# Altium integrated library TI Power Management Switching Regulator Charge Pump (Inductorless).IntLib: 239 symbols (part 4 of 14)
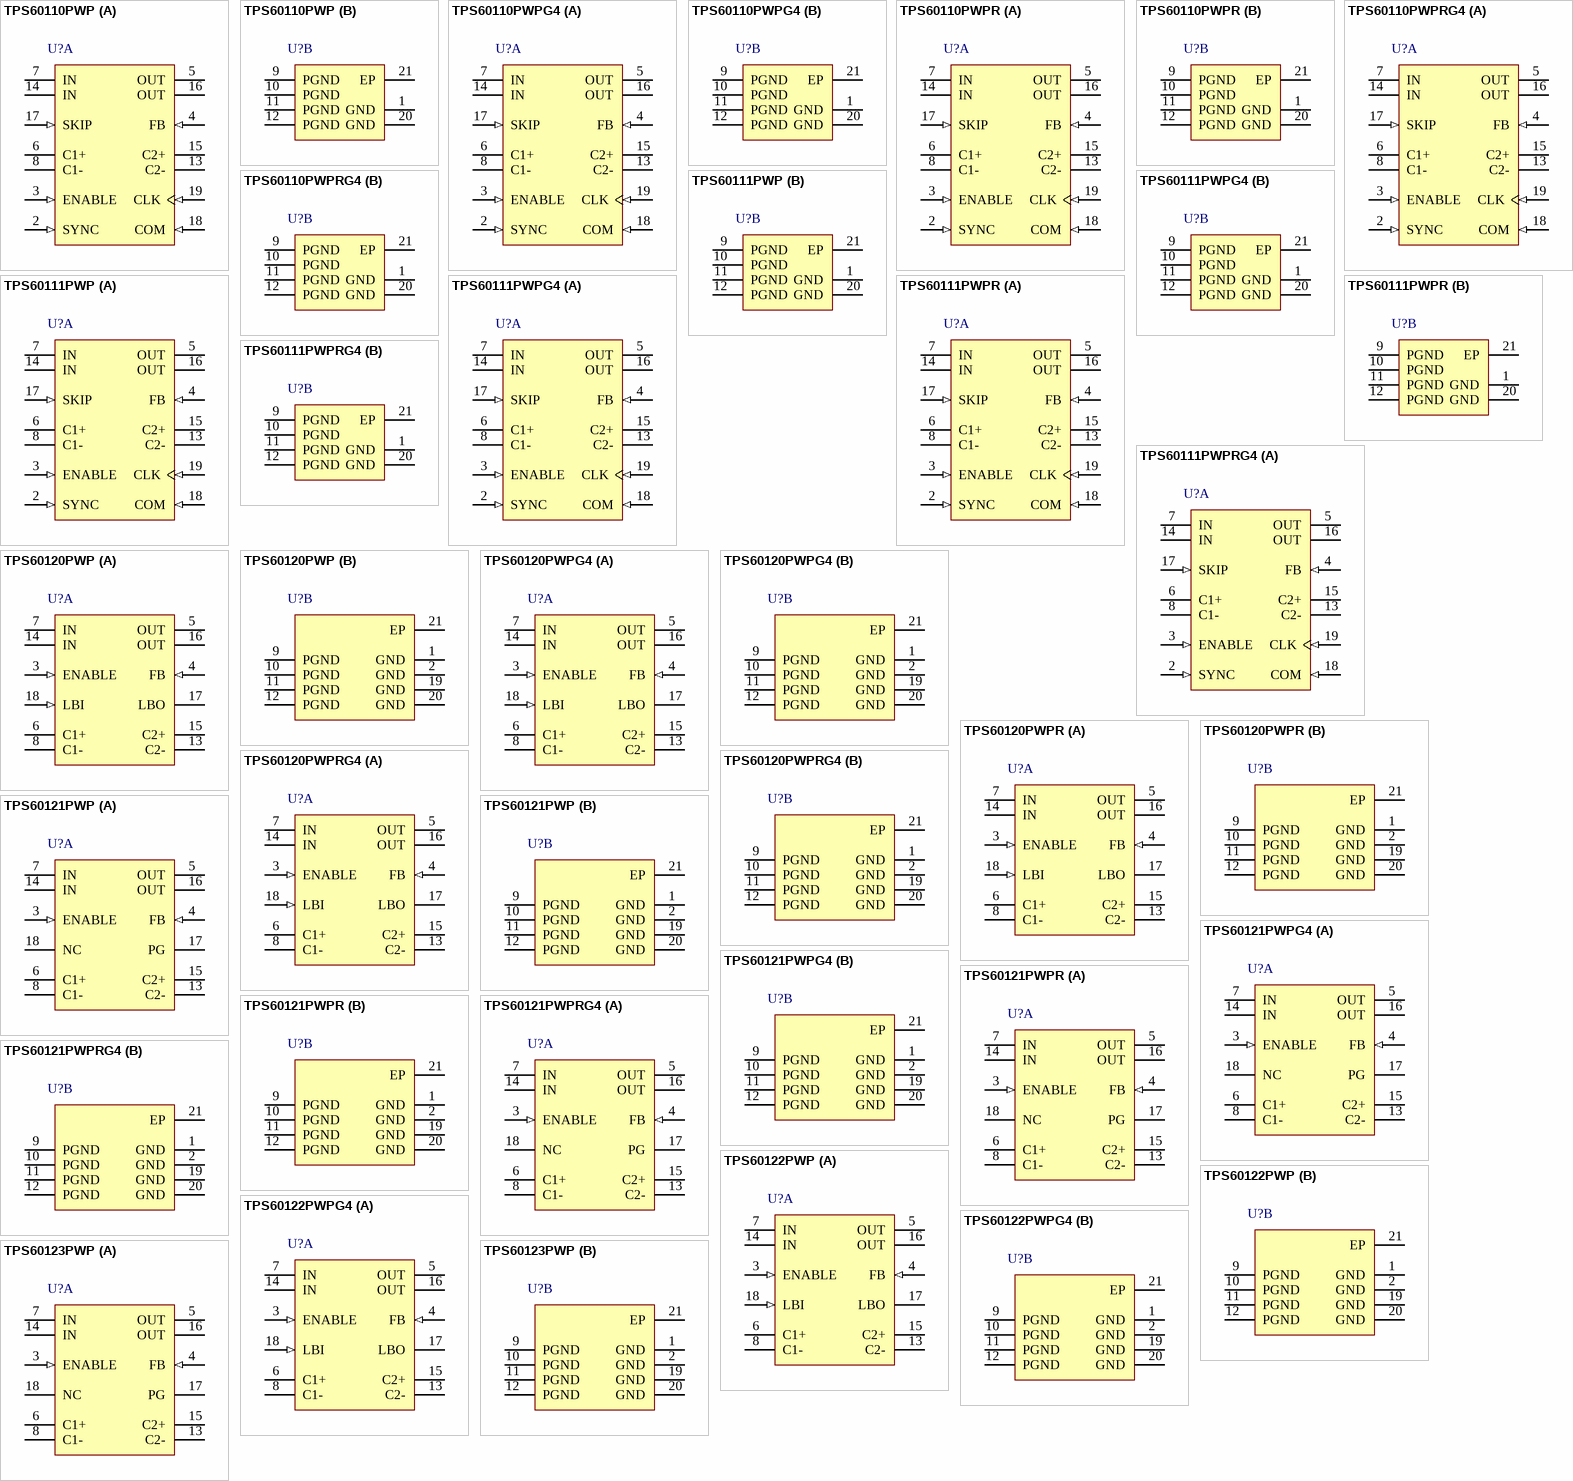
[diagram p10: symbols TPS60110PWP to TPS60123PWP]

## TPS60111PWPG4
designator U?
5 V, Boost Charge Pump, 150 mA, 2.7 to 5.4 V Input with Synchonrization Pin, -40 to 85 degC, 20-pin SOP (PWP20), Green (RoHS & no Sb/Br); Manufacturer: Texas Instruments; PartNumber: TPS60111PWPG4; Efficiency(Typ)(%): 70; Iout(Max)(A): 0.15; Iq(Typ)(mA): 0.06; Preset Vout(V): 5; Switching Frequency(Max)(kHz): 400; Synchronization Pin: TRUE; Vin(Max)(V): 5.4; Vin(Min)(V): 2.7; Vout(Max)(V): 5.2; Vout(Min)(V): 4.8; DatasheetVersion: SLVS216B; PackageVersion: 4073225-4/I; PackageReference: PWP20-2680X1950TP; PackageDescription: 20-Pin Plastic Small Outline, Body 6.5 x 4.4 mm, Pitch 0.65 mm; Supplier 1: Digi-Key; Supplier Part Number 1: TPS60111PWPG4-ND; Supplier 2: Newark; Supplier Part Number 2: 33K7627; Supplier 3: Mouser; Supplier Part Number 3: 595-TPS60111PWPG4; Eco-Plan: Green (RoHS & no Sb/Br); Topology: Boost; Mounting Technology: Surface Mount; Code_JEDEC: MO-153; ComponentLink1Description: Manufacturer URL; ComponentLink1URL: http://www.ti.com/; ComponentLink2Description: Datasheet; ComponentLink2URL: http://www.ti.com/general/docs/lit/getliterature.tsp?genericPartNumber=TPS60111&fileType=pdf; ComponentLink3Description: Package Specification; ComponentLink3URL: http://www.ti.com/litv/pdf/mhts001g
footprint TI-PWP20-2680X1950TP_N (SOP, 20-Leads, Body 6.4x4.4mm, Pitch 0.65mm, Thermal Pad 1.95x2.675mm, IPC Medium Density)
footprint TI-PWP20-2680X1950TP_L (SOP, 20-Leads, Body 6.4x4.4mm, Pitch 0.65mm, Thermal Pad 1.95x2.675mm, IPC High Density)
footprint TI-PWP20-2680X1950TP_M (SOP, 20-Leads, Body 6.4x4.4mm, Pitch 0.65mm, Thermal Pad 1.95x2.675mm, IPC Low Density)
part A pins: 2 SYNC (in) "Selection for external clock signal. Connect to GND to use the internally generated clock signal. Connect to IN for external synchronization. In this case, the clock signal needs to be fed through CLK.", 3 ENABLE (in) "ENABLE Input. The device turns off, the output disconnects from the input, and the supply current decreases to 0.05 uA when ENABLE is a logic low. ENABLE high may only be applied when VIN is inside the recommended operating (See Datasheet)", 4 FB (in) "FEEDBACK input. Connect FB to OUT as close to the load as possible to achieve best regulation. Resistive divider is on-chip to match internal reference voltage of 1.22 V.", 5 OUT (power) "Regulated 5-V power output. Connect both OUTs through a short trace and bypass OUT to GND with the output filter capacitor CO.", 6 C1+ "Positive terminal of the charge-pump capacitor C1F", 7 IN (power) "Supply Input. Connect to an input supply in the 2.7-V to 5.4-V range. Bypass IN to GND with a (CO/2) uF capacitor. Connect both INs through a short trace.", 8 C1- "Negative terminal of the charge-pump capacitor C1F", 13 C2- "Negative terminal of the charge-pump capacitor C2F", 14 IN (power) "Supply Input. Connect to an input supply in the 2.7-V to 5.4-V range. Bypass IN to GND with a (CO/2) uF capacitor. Connect both INs through a short trace.", 15 C2+ "Positive terminal of the charge-pump capacitor C2F", 16 OUT (power) "Regulated 5-V power output. Connect both OUTs through a short trace and bypass OUT to GND with the output filter capacitor CO.", 17 SKIP (in) "Mode selection. When SKIP is logic low the charge pump operates in constant-frequency mode. Thus output ripple and noise are minimized. When SKIP is connected to IN, the regulator operates in low-quiescent-current pulse-skip (See Datasheet)", 18 COM (in) "Mode selection. When COM is logic low the charge pump operates in push-pull mode to minimize output ripple. When COM is connected to IN the regulator operates in single-ended mode requiring only one flying capacitor.", 19 CLK (in) "Input for external clock signal. If the internal clock is used, connect this terminal to GND."
part B pins: 1 GND (power) "GROUND. Analog ground for internal reference and control circuitry. Connect to PGND through a short trace.", 9 PGND (power) "PGND power ground. Charge-pump current flows through this pin. Connect all PGNDs together.", 10 PGND (power) "PGND power ground. Charge-pump current flows through this pin. Connect all PGNDs together.", 11 PGND (power) "PGND power ground. Charge-pump current flows through this pin. Connect all PGNDs together.", 12 PGND (power) "PGND power ground. Charge-pump current flows through this pin. Connect all PGNDs together.", 20 GND (power) "GROUND. Analog ground for internal reference and control circuitry. Connect to PGND through a short trace.", 21 EP "Exposed thermal pad."

## TPS60111PWPR
designator U?
5 V, Boost Charge Pump, 150 mA, 2.7 to 5.4 V Input with Synchonrization Pin, -40 to 85 degC, 20-pin SOP (PWP20), Green (RoHS & no Sb/Br); Manufacturer: Texas Instruments; PartNumber: TPS60111PWPR; Efficiency(Typ)(%): 70; Iout(Max)(A): 0.15; Iq(Typ)(mA): 0.06; Preset Vout(V): 5; Switching Frequency(Max)(kHz): 400; Synchronization Pin: TRUE; Vin(Max)(V): 5.4; Vin(Min)(V): 2.7; Vout(Max)(V): 5.2; Vout(Min)(V): 4.8; DatasheetVersion: SLVS216B; PackageVersion: 4073225-4/I; PackageReference: PWP20-2680X1950TP; PackageDescription: 20-Pin Plastic Small Outline, Body 6.5 x 4.4 mm, Pitch 0.65 mm; Supplier 1: Digi-Key; Supplier Part Number 1: TPS60111PWPR-ND; Supplier 2: Newark; Supplier Part Number 2: 77C0558; Supplier 3: Mouser; Supplier Part Number 3: 595-TPS60111PWPR; Eco-Plan: Green (RoHS & no Sb/Br); Topology: Boost; Mounting Technology: Surface Mount; Code_JEDEC: MO-153; ComponentLink1Description: Manufacturer URL; ComponentLink1URL: http://www.ti.com/; ComponentLink2Description: Datasheet; ComponentLink2URL: http://www.ti.com/general/docs/lit/getliterature.tsp?genericPartNumber=TPS60111&fileType=pdf; ComponentLink3Description: Package Specification; ComponentLink3URL: http://www.ti.com/litv/pdf/mhts001g
footprint TI-PWP20-2680X1950TP_N (SOP, 20-Leads, Body 6.4x4.4mm, Pitch 0.65mm, Thermal Pad 1.95x2.675mm, IPC Medium Density)
footprint TI-PWP20-2680X1950TP_L (SOP, 20-Leads, Body 6.4x4.4mm, Pitch 0.65mm, Thermal Pad 1.95x2.675mm, IPC High Density)
footprint TI-PWP20-2680X1950TP_M (SOP, 20-Leads, Body 6.4x4.4mm, Pitch 0.65mm, Thermal Pad 1.95x2.675mm, IPC Low Density)
part A pins: 2 SYNC (in) "Selection for external clock signal. Connect to GND to use the internally generated clock signal. Connect to IN for external synchronization. In this case, the clock signal needs to be fed through CLK.", 3 ENABLE (in) "ENABLE Input. The device turns off, the output disconnects from the input, and the supply current decreases to 0.05 uA when ENABLE is a logic low. ENABLE high may only be applied when VIN is inside the recommended operating (See Datasheet)", 4 FB (in) "FEEDBACK input. Connect FB to OUT as close to the load as possible to achieve best regulation. Resistive divider is on-chip to match internal reference voltage of 1.22 V.", 5 OUT (power) "Regulated 5-V power output. Connect both OUTs through a short trace and bypass OUT to GND with the output filter capacitor CO.", 6 C1+ "Positive terminal of the charge-pump capacitor C1F", 7 IN (power) "Supply Input. Connect to an input supply in the 2.7-V to 5.4-V range. Bypass IN to GND with a (CO/2) uF capacitor. Connect both INs through a short trace.", 8 C1- "Negative terminal of the charge-pump capacitor C1F", 13 C2- "Negative terminal of the charge-pump capacitor C2F", 14 IN (power) "Supply Input. Connect to an input supply in the 2.7-V to 5.4-V range. Bypass IN to GND with a (CO/2) uF capacitor. Connect both INs through a short trace.", 15 C2+ "Positive terminal of the charge-pump capacitor C2F", 16 OUT (power) "Regulated 5-V power output. Connect both OUTs through a short trace and bypass OUT to GND with the output filter capacitor CO.", 17 SKIP (in) "Mode selection. When SKIP is logic low the charge pump operates in constant-frequency mode. Thus output ripple and noise are minimized. When SKIP is connected to IN, the regulator operates in low-quiescent-current pulse-skip (See Datasheet)", 18 COM (in) "Mode selection. When COM is logic low the charge pump operates in push-pull mode to minimize output ripple. When COM is connected to IN the regulator operates in single-ended mode requiring only one flying capacitor.", 19 CLK (in) "Input for external clock signal. If the internal clock is used, connect this terminal to GND."
part B pins: 1 GND (power) "GROUND. Analog ground for internal reference and control circuitry. Connect to PGND through a short trace.", 9 PGND (power) "PGND power ground. Charge-pump current flows through this pin. Connect all PGNDs together.", 10 PGND (power) "PGND power ground. Charge-pump current flows through this pin. Connect all PGNDs together.", 11 PGND (power) "PGND power ground. Charge-pump current flows through this pin. Connect all PGNDs together.", 12 PGND (power) "PGND power ground. Charge-pump current flows through this pin. Connect all PGNDs together.", 20 GND (power) "GROUND. Analog ground for internal reference and control circuitry. Connect to PGND through a short trace.", 21 EP "Exposed thermal pad."

## TPS60111PWPRG4
designator U?
5 V, Boost Charge Pump, 150 mA, 2.7 to 5.4 V Input with Synchonrization Pin, -40 to 85 degC, 20-pin SOP (PWP20), Green (RoHS & no Sb/Br); Manufacturer: Texas Instruments; PartNumber: TPS60111PWPRG4; Efficiency(Typ)(%): 70; Iout(Max)(A): 0.15; Iq(Typ)(mA): 0.06; Preset Vout(V): 5; Switching Frequency(Max)(kHz): 400; Synchronization Pin: TRUE; Vin(Max)(V): 5.4; Vin(Min)(V): 2.7; Vout(Max)(V): 5.2; Vout(Min)(V): 4.8; DatasheetVersion: SLVS216B; PackageVersion: 4073225-4/I; PackageReference: PWP20-2680X1950TP; PackageDescription: 20-Pin Plastic Small Outline, Body 6.5 x 4.4 mm, Pitch 0.65 mm; Supplier 1: Digi-Key; Supplier Part Number 1: TPS60111PWPRG4-ND; Supplier 2: Newark; Supplier Part Number 2: 33K7628; Supplier 3: Mouser; Supplier Part Number 3: 595-TPS60111PWPRG4; Eco-Plan: Green (RoHS & no Sb/Br); Topology: Boost; Mounting Technology: Surface Mount; Code_JEDEC: MO-153; ComponentLink1Description: Manufacturer URL; ComponentLink1URL: http://www.ti.com/; ComponentLink2Description: Datasheet; ComponentLink2URL: http://www.ti.com/general/docs/lit/getliterature.tsp?genericPartNumber=TPS60111&fileType=pdf; ComponentLink3Description: Package Specification; ComponentLink3URL: http://www.ti.com/litv/pdf/mhts001g
footprint TI-PWP20-2680X1950TP_N (SOP, 20-Leads, Body 6.4x4.4mm, Pitch 0.65mm, Thermal Pad 1.95x2.675mm, IPC Medium Density)
footprint TI-PWP20-2680X1950TP_L (SOP, 20-Leads, Body 6.4x4.4mm, Pitch 0.65mm, Thermal Pad 1.95x2.675mm, IPC High Density)
footprint TI-PWP20-2680X1950TP_M (SOP, 20-Leads, Body 6.4x4.4mm, Pitch 0.65mm, Thermal Pad 1.95x2.675mm, IPC Low Density)
part A pins: 2 SYNC (in) "Selection for external clock signal. Connect to GND to use the internally generated clock signal. Connect to IN for external synchronization. In this case, the clock signal needs to be fed through CLK.", 3 ENABLE (in) "ENABLE Input. The device turns off, the output disconnects from the input, and the supply current decreases to 0.05 uA when ENABLE is a logic low. ENABLE high may only be applied when VIN is inside the recommended operating (See Datasheet)", 4 FB (in) "FEEDBACK input. Connect FB to OUT as close to the load as possible to achieve best regulation. Resistive divider is on-chip to match internal reference voltage of 1.22 V.", 5 OUT (power) "Regulated 5-V power output. Connect both OUTs through a short trace and bypass OUT to GND with the output filter capacitor CO.", 6 C1+ "Positive terminal of the charge-pump capacitor C1F", 7 IN (power) "Supply Input. Connect to an input supply in the 2.7-V to 5.4-V range. Bypass IN to GND with a (CO/2) uF capacitor. Connect both INs through a short trace.", 8 C1- "Negative terminal of the charge-pump capacitor C1F", 13 C2- "Negative terminal of the charge-pump capacitor C2F", 14 IN (power) "Supply Input. Connect to an input supply in the 2.7-V to 5.4-V range. Bypass IN to GND with a (CO/2) uF capacitor. Connect both INs through a short trace.", 15 C2+ "Positive terminal of the charge-pump capacitor C2F", 16 OUT (power) "Regulated 5-V power output. Connect both OUTs through a short trace and bypass OUT to GND with the output filter capacitor CO.", 17 SKIP (in) "Mode selection. When SKIP is logic low the charge pump operates in constant-frequency mode. Thus output ripple and noise are minimized. When SKIP is connected to IN, the regulator operates in low-quiescent-current pulse-skip (See Datasheet)", 18 COM (in) "Mode selection. When COM is logic low the charge pump operates in push-pull mode to minimize output ripple. When COM is connected to IN the regulator operates in single-ended mode requiring only one flying capacitor.", 19 CLK (in) "Input for external clock signal. If the internal clock is used, connect this terminal to GND."
part B pins: 1 GND (power) "GROUND. Analog ground for internal reference and control circuitry. Connect to PGND through a short trace.", 9 PGND (power) "PGND power ground. Charge-pump current flows through this pin. Connect all PGNDs together.", 10 PGND (power) "PGND power ground. Charge-pump current flows through this pin. Connect all PGNDs together.", 11 PGND (power) "PGND power ground. Charge-pump current flows through this pin. Connect all PGNDs together.", 12 PGND (power) "PGND power ground. Charge-pump current flows through this pin. Connect all PGNDs together.", 20 GND (power) "GROUND. Analog ground for internal reference and control circuitry. Connect to PGND through a short trace.", 21 EP "Exposed thermal pad."

## TPS60120PWP
designator U?
3.3 V, Boost Charge Pump, 200 mA, 1.8 to 3.6 V Input with 2-Cell Alkaline / Nixx Input, -40 to 85 degC, 20-pin SOP (PWP20), Green (RoHS & no Sb/Br); Manufacturer: Texas Instruments; PartNumber: TPS60120PWP; 2-Cell Alkaline/Nixx Input: TRUE; Efficiency(Typ)(%): 85; Iout(Max)(A): 0.2; Iq(Typ)(mA): 0.055; Preset Vout(V): 3.3; Switching Frequency(Max)(kHz): 450; Vin(Max)(V): 3.6; Vin(Min)(V): 1.8; Vout(Max)(V): 3.43; Vout(Min)(V): 3.17; DatasheetVersion: SLVS257B; PackageVersion: 4073225-4/I; PackageReference: PWP20-2680X1950TP; PackageDescription: 20-Pin Plastic Small Outline, Body 6.5 x 4.4 mm, Pitch 0.65 mm; Supplier 1: Digi-Key; Supplier Part Number 1: 296-2267-5-ND; Supplier 2: Mouser; Supplier Part Number 2: 595-TPS60120PWP; Eco-Plan: Green (RoHS & no Sb/Br); Topology: Boost; Mounting Technology: Surface Mount; Code_JEDEC: MO-153; ComponentLink1Description: Manufacturer URL; ComponentLink1URL: http://www.ti.com/; ComponentLink2Description: Datasheet; ComponentLink2URL: http://www.ti.com/general/docs/lit/getliterature.tsp?genericPartNumber=TPS60120&fileType=pdf; ComponentLink3Description: Package Specification; ComponentLink3URL: http://www.ti.com/litv/pdf/mhts001g
footprint TI-PWP20-2680X1950TP_N (SOP, 20-Leads, Body 6.4x4.4mm, Pitch 0.65mm, Thermal Pad 1.95x2.675mm, IPC Medium Density)
footprint TI-PWP20-2680X1950TP_L (SOP, 20-Leads, Body 6.4x4.4mm, Pitch 0.65mm, Thermal Pad 1.95x2.675mm, IPC High Density)
footprint TI-PWP20-2680X1950TP_M (SOP, 20-Leads, Body 6.4x4.4mm, Pitch 0.65mm, Thermal Pad 1.95x2.675mm, IPC Low Density)
part A pins: 3 ENABLE (in) "ENABLE input. Connect ENABLE to IN for normal operation. When ENABLE is a logic low, the device turns off and the supply current decreases to 0.05 uA. The output is disconnected from the input when the device is placed in (See Datasheet)", 4 FB (in) "Feedback input. Connect FB to OUT as close to the load as possible to achieve best regulation. Resistive divider is on the chip to match the internal reference voltage of 1.21 V.", 5 OUT (power) "Regulated power output. Connect both OUT terminals through a short trace and bypass OUT to GND with the output filter capacitor CO.", 6 C1+ "Positive terminal of the flying capacitor C1", 7 IN (power) "Supply input. Connect to an input supply in the 1.8-V to 3.6-V range. Bypass IN to PGND with a (CO/2) uF capacitor.Connect both INs through a short trace.", 8 C1- "Negative terminal of the flying capacitor C1", 13 C2- "Negative terminal of the flying capacitor C2", 14 IN (power) "Supply input. Connect to an input supply in the 1.8-V to 3.6-V range. Bypass IN to PGND with a (CO/2) uF capacitor.Connect both INs through a short trace.", 15 C2+ "Positive terminal of the flying capacitor C2", 16 OUT (power) "Regulated power output. Connect both OUT terminals through a short trace and bypass OUT to GND with the output filter capacitor CO.", 17 LBO (hiz) "Low battery detector output or power good output. Open drain output of the low battery or power-good comparator.It can sink 1 mA. A 100-kohm to 1-Mohm pullup is recommended. Leave terminal unconnected if not used.", 18 LBI (in) "Low battery detector input (TPS60120/TPS60122/TPS60124 only). The input is compared to the internal 1.21-V reference voltage. Connect terminal to ground if the low-battery detector function is not used. On the (See Datasheet)"
part B pins: 1 GND (power) "Ground. Analog ground for internal reference and control circuitry. Connect to PGND through a short trace.", 2 GND (power) "Ground. Analog ground for internal reference and control circuitry. Connect to PGND through a short trace.", 9 PGND (power) "Power ground. Charge-pump current flows through this pin. Connect all PGND pins together.", 10 PGND (power) "Power ground. Charge-pump current flows through this pin. Connect all PGND pins together.", 11 PGND (power) "Power ground. Charge-pump current flows through this pin. Connect all PGND pins together.", 12 PGND (power) "Power ground. Charge-pump current flows through this pin. Connect all PGND pins together.", 19 GND (power) "Ground. Analog ground for internal reference and control circuitry. Connect to PGND through a short trace.", 20 GND (power) "Ground. Analog ground for internal reference and control circuitry. Connect to PGND through a short trace.", 21 EP "The Thermal Pad."

## TPS60120PWPG4
designator U?
3.3 V, Boost Charge Pump, 200 mA, 1.8 to 3.6 V Input with 2-Cell Alkaline / Nixx Input, -40 to 85 degC, 20-pin SOP (PWP20), Green (RoHS & no Sb/Br); Manufacturer: Texas Instruments; PartNumber: TPS60120PWPG4; 2-Cell Alkaline/Nixx Input: TRUE; Efficiency(Typ)(%): 85; Iout(Max)(A): 0.2; Iq(Typ)(mA): 0.055; Preset Vout(V): 3.3; Switching Frequency(Max)(kHz): 450; Vin(Max)(V): 3.6; Vin(Min)(V): 1.8; Vout(Max)(V): 3.43; Vout(Min)(V): 3.17; DatasheetVersion: SLVS257B; PackageVersion: 4073225-4/I; PackageReference: PWP20-2680X1950TP; PackageDescription: 20-Pin Plastic Small Outline, Body 6.5 x 4.4 mm, Pitch 0.65 mm; Supplier 1: Digi-Key; Supplier Part Number 1: TPS60120PWPG4-ND; Supplier 2: Mouser; Supplier Part Number 2: 595-TPS60120PWPG4; Eco-Plan: Green (RoHS & no Sb/Br); Topology: Boost; Mounting Technology: Surface Mount; Code_JEDEC: MO-153; ComponentLink1Description: Manufacturer URL; ComponentLink1URL: http://www.ti.com/; ComponentLink2Description: Datasheet; ComponentLink2URL: http://www.ti.com/general/docs/lit/getliterature.tsp?genericPartNumber=TPS60120&fileType=pdf; ComponentLink3Description: Package Specification; ComponentLink3URL: http://www.ti.com/litv/pdf/mhts001g
footprint TI-PWP20-2680X1950TP_N (SOP, 20-Leads, Body 6.4x4.4mm, Pitch 0.65mm, Thermal Pad 1.95x2.675mm, IPC Medium Density)
footprint TI-PWP20-2680X1950TP_L (SOP, 20-Leads, Body 6.4x4.4mm, Pitch 0.65mm, Thermal Pad 1.95x2.675mm, IPC High Density)
footprint TI-PWP20-2680X1950TP_M (SOP, 20-Leads, Body 6.4x4.4mm, Pitch 0.65mm, Thermal Pad 1.95x2.675mm, IPC Low Density)
part A pins: 3 ENABLE (in) "ENABLE input. Connect ENABLE to IN for normal operation. When ENABLE is a logic low, the device turns off and the supply current decreases to 0.05 uA. The output is disconnected from the input when the device is placed in (See Datasheet)", 4 FB (in) "Feedback input. Connect FB to OUT as close to the load as possible to achieve best regulation. Resistive divider is on the chip to match the internal reference voltage of 1.21 V.", 5 OUT (power) "Regulated power output. Connect both OUT terminals through a short trace and bypass OUT to GND with the output filter capacitor CO.", 6 C1+ "Positive terminal of the flying capacitor C1", 7 IN (power) "Supply input. Connect to an input supply in the 1.8-V to 3.6-V range. Bypass IN to PGND with a (CO/2) uF capacitor.Connect both INs through a short trace.", 8 C1- "Negative terminal of the flying capacitor C1", 13 C2- "Negative terminal of the flying capacitor C2", 14 IN (power) "Supply input. Connect to an input supply in the 1.8-V to 3.6-V range. Bypass IN to PGND with a (CO/2) uF capacitor.Connect both INs through a short trace.", 15 C2+ "Positive terminal of the flying capacitor C2", 16 OUT (power) "Regulated power output. Connect both OUT terminals through a short trace and bypass OUT to GND with the output filter capacitor CO.", 17 LBO (hiz) "Low battery detector output or power good output. Open drain output of the low battery or power-good comparator.It can sink 1 mA. A 100-kohm to 1-Mohm pullup is recommended. Leave terminal unconnected if not used.", 18 LBI (in) "Low battery detector input (TPS60120/TPS60122/TPS60124 only). The input is compared to the internal 1.21-V reference voltage. Connect terminal to ground if the low-battery detector function is not used. On the (See Datasheet)"
part B pins: 1 GND (power) "Ground. Analog ground for internal reference and control circuitry. Connect to PGND through a short trace.", 2 GND (power) "Ground. Analog ground for internal reference and control circuitry. Connect to PGND through a short trace.", 9 PGND (power) "Power ground. Charge-pump current flows through this pin. Connect all PGND pins together.", 10 PGND (power) "Power ground. Charge-pump current flows through this pin. Connect all PGND pins together.", 11 PGND (power) "Power ground. Charge-pump current flows through this pin. Connect all PGND pins together.", 12 PGND (power) "Power ground. Charge-pump current flows through this pin. Connect all PGND pins together.", 19 GND (power) "Ground. Analog ground for internal reference and control circuitry. Connect to PGND through a short trace.", 20 GND (power) "Ground. Analog ground for internal reference and control circuitry. Connect to PGND through a short trace.", 21 EP "The Thermal Pad."

## TPS60120PWPR
designator U?
3.3 V, Boost Charge Pump, 200 mA, 1.8 to 3.6 V Input with 2-Cell Alkaline / Nixx Input, -40 to 85 degC, 20-pin SOP (PWP20), Green (RoHS & no Sb/Br); Manufacturer: Texas Instruments; PartNumber: TPS60120PWPR; 2-Cell Alkaline/Nixx Input: TRUE; Efficiency(Typ)(%): 85; Iout(Max)(A): 0.2; Iq(Typ)(mA): 0.055; Preset Vout(V): 3.3; Switching Frequency(Max)(kHz): 450; Vin(Max)(V): 3.6; Vin(Min)(V): 1.8; Vout(Max)(V): 3.43; Vout(Min)(V): 3.17; DatasheetVersion: SLVS257B; PackageVersion: 4073225-4/I; PackageReference: PWP20-2680X1950TP; PackageDescription: 20-Pin Plastic Small Outline, Body 6.5 x 4.4 mm, Pitch 0.65 mm; Supplier 1: Digi-Key; Supplier Part Number 1: TPS60120PWPR-ND; Supplier 2: Mouser; Supplier Part Number 2: 595-TPS60120PWPR; Eco-Plan: Green (RoHS & no Sb/Br); Topology: Boost; Mounting Technology: Surface Mount; Code_JEDEC: MO-153; ComponentLink1Description: Manufacturer URL; ComponentLink1URL: http://www.ti.com/; ComponentLink2Description: Datasheet; ComponentLink2URL: http://www.ti.com/general/docs/lit/getliterature.tsp?genericPartNumber=TPS60120&fileType=pdf; ComponentLink3Description: Package Specification; ComponentLink3URL: http://www.ti.com/litv/pdf/mhts001g
footprint TI-PWP20-2680X1950TP_N (SOP, 20-Leads, Body 6.4x4.4mm, Pitch 0.65mm, Thermal Pad 1.95x2.675mm, IPC Medium Density)
footprint TI-PWP20-2680X1950TP_L (SOP, 20-Leads, Body 6.4x4.4mm, Pitch 0.65mm, Thermal Pad 1.95x2.675mm, IPC High Density)
footprint TI-PWP20-2680X1950TP_M (SOP, 20-Leads, Body 6.4x4.4mm, Pitch 0.65mm, Thermal Pad 1.95x2.675mm, IPC Low Density)
part A pins: 3 ENABLE (in) "ENABLE input. Connect ENABLE to IN for normal operation. When ENABLE is a logic low, the device turns off and the supply current decreases to 0.05 uA. The output is disconnected from the input when the device is placed in (See Datasheet)", 4 FB (in) "Feedback input. Connect FB to OUT as close to the load as possible to achieve best regulation. Resistive divider is on the chip to match the internal reference voltage of 1.21 V.", 5 OUT (power) "Regulated power output. Connect both OUT terminals through a short trace and bypass OUT to GND with the output filter capacitor CO.", 6 C1+ "Positive terminal of the flying capacitor C1", 7 IN (power) "Supply input. Connect to an input supply in the 1.8-V to 3.6-V range. Bypass IN to PGND with a (CO/2) uF capacitor.Connect both INs through a short trace.", 8 C1- "Negative terminal of the flying capacitor C1", 13 C2- "Negative terminal of the flying capacitor C2", 14 IN (power) "Supply input. Connect to an input supply in the 1.8-V to 3.6-V range. Bypass IN to PGND with a (CO/2) uF capacitor.Connect both INs through a short trace.", 15 C2+ "Positive terminal of the flying capacitor C2", 16 OUT (power) "Regulated power output. Connect both OUT terminals through a short trace and bypass OUT to GND with the output filter capacitor CO.", 17 LBO (hiz) "Low battery detector output or power good output. Open drain output of the low battery or power-good comparator.It can sink 1 mA. A 100-kohm to 1-Mohm pullup is recommended. Leave terminal unconnected if not used.", 18 LBI (in) "Low battery detector input (TPS60120/TPS60122/TPS60124 only). The input is compared to the internal 1.21-V reference voltage. Connect terminal to ground if the low-battery detector function is not used. On the (See Datasheet)"
part B pins: 1 GND (power) "Ground. Analog ground for internal reference and control circuitry. Connect to PGND through a short trace.", 2 GND (power) "Ground. Analog ground for internal reference and control circuitry. Connect to PGND through a short trace.", 9 PGND (power) "Power ground. Charge-pump current flows through this pin. Connect all PGND pins together.", 10 PGND (power) "Power ground. Charge-pump current flows through this pin. Connect all PGND pins together.", 11 PGND (power) "Power ground. Charge-pump current flows through this pin. Connect all PGND pins together.", 12 PGND (power) "Power ground. Charge-pump current flows through this pin. Connect all PGND pins together.", 19 GND (power) "Ground. Analog ground for internal reference and control circuitry. Connect to PGND through a short trace.", 20 GND (power) "Ground. Analog ground for internal reference and control circuitry. Connect to PGND through a short trace.", 21 EP "The Thermal Pad."

## TPS60120PWPRG4
designator U?
3.3 V, Boost Charge Pump, 200 mA, 1.8 to 3.6 V Input with 2-Cell Alkaline / Nixx Input, -40 to 85 degC, 20-pin SOP (PWP20), Green (RoHS & no Sb/Br); Manufacturer: Texas Instruments; PartNumber: TPS60120PWPRG4; 2-Cell Alkaline/Nixx Input: TRUE; Efficiency(Typ)(%): 85; Iout(Max)(A): 0.2; Iq(Typ)(mA): 0.055; Preset Vout(V): 3.3; Switching Frequency(Max)(kHz): 450; Vin(Max)(V): 3.6; Vin(Min)(V): 1.8; Vout(Max)(V): 3.43; Vout(Min)(V): 3.17; DatasheetVersion: SLVS257B; PackageVersion: 4073225-4/I; PackageReference: PWP20-2680X1950TP; PackageDescription: 20-Pin Plastic Small Outline, Body 6.5 x 4.4 mm, Pitch 0.65 mm; Supplier 1: Digi-Key; Supplier Part Number 1: TPS60120PWPRG4-ND; Supplier 2: Mouser; Supplier Part Number 2: 595-TPS60120PWPRG4; Eco-Plan: Green (RoHS & no Sb/Br); Topology: Boost; Mounting Technology: Surface Mount; Code_JEDEC: MO-153; ComponentLink1Description: Manufacturer URL; ComponentLink1URL: http://www.ti.com/; ComponentLink2Description: Datasheet; ComponentLink2URL: http://www.ti.com/general/docs/lit/getliterature.tsp?genericPartNumber=TPS60120&fileType=pdf; ComponentLink3Description: Package Specification; ComponentLink3URL: http://www.ti.com/litv/pdf/mhts001g
footprint TI-PWP20-2680X1950TP_N (SOP, 20-Leads, Body 6.4x4.4mm, Pitch 0.65mm, Thermal Pad 1.95x2.675mm, IPC Medium Density)
footprint TI-PWP20-2680X1950TP_L (SOP, 20-Leads, Body 6.4x4.4mm, Pitch 0.65mm, Thermal Pad 1.95x2.675mm, IPC High Density)
footprint TI-PWP20-2680X1950TP_M (SOP, 20-Leads, Body 6.4x4.4mm, Pitch 0.65mm, Thermal Pad 1.95x2.675mm, IPC Low Density)
part A pins: 3 ENABLE (in) "ENABLE input. Connect ENABLE to IN for normal operation. When ENABLE is a logic low, the device turns off and the supply current decreases to 0.05 uA. The output is disconnected from the input when the device is placed in (See Datasheet)", 4 FB (in) "Feedback input. Connect FB to OUT as close to the load as possible to achieve best regulation. Resistive divider is on the chip to match the internal reference voltage of 1.21 V.", 5 OUT (power) "Regulated power output. Connect both OUT terminals through a short trace and bypass OUT to GND with the output filter capacitor CO.", 6 C1+ "Positive terminal of the flying capacitor C1", 7 IN (power) "Supply input. Connect to an input supply in the 1.8-V to 3.6-V range. Bypass IN to PGND with a (CO/2) uF capacitor.Connect both INs through a short trace.", 8 C1- "Negative terminal of the flying capacitor C1", 13 C2- "Negative terminal of the flying capacitor C2", 14 IN (power) "Supply input. Connect to an input supply in the 1.8-V to 3.6-V range. Bypass IN to PGND with a (CO/2) uF capacitor.Connect both INs through a short trace.", 15 C2+ "Positive terminal of the flying capacitor C2", 16 OUT (power) "Regulated power output. Connect both OUT terminals through a short trace and bypass OUT to GND with the output filter capacitor CO.", 17 LBO (hiz) "Low battery detector output or power good output. Open drain output of the low battery or power-good comparator.It can sink 1 mA. A 100-kohm to 1-Mohm pullup is recommended. Leave terminal unconnected if not used.", 18 LBI (in) "Low battery detector input (TPS60120/TPS60122/TPS60124 only). The input is compared to the internal 1.21-V reference voltage. Connect terminal to ground if the low-battery detector function is not used. On the (See Datasheet)"
part B pins: 1 GND (power) "Ground. Analog ground for internal reference and control circuitry. Connect to PGND through a short trace.", 2 GND (power) "Ground. Analog ground for internal reference and control circuitry. Connect to PGND through a short trace.", 9 PGND (power) "Power ground. Charge-pump current flows through this pin. Connect all PGND pins together.", 10 PGND (power) "Power ground. Charge-pump current flows through this pin. Connect all PGND pins together.", 11 PGND (power) "Power ground. Charge-pump current flows through this pin. Connect all PGND pins together.", 12 PGND (power) "Power ground. Charge-pump current flows through this pin. Connect all PGND pins together.", 19 GND (power) "Ground. Analog ground for internal reference and control circuitry. Connect to PGND through a short trace.", 20 GND (power) "Ground. Analog ground for internal reference and control circuitry. Connect to PGND through a short trace.", 21 EP "The Thermal Pad."

## TPS60121PWP
designator U?
3.3 V, Boost Charge Pump, 200 mA, 1.8 to 3.6 V Input with 2-Cell Alkaline / Nixx Input, -40 to 85 degC, 20-pin SOP (PWP20), Green (RoHS & no Sb/Br); Manufacturer: Texas Instruments; PartNumber: TPS60121PWP; 2-Cell Alkaline/Nixx Input: TRUE; Efficiency(Typ)(%): 85; Iout(Max)(A): 0.2; Iq(Typ)(mA): 0.055; Preset Vout(V): 3.3; Switching Frequency(Max)(kHz): 450; Vin(Max)(V): 3.6; Vin(Min)(V): 1.8; Vout(Max)(V): 3.43; Vout(Min)(V): 3.17; DatasheetVersion: SLVS257B; PackageVersion: 4073225-4/I; PackageReference: PWP20-2680X1950TP; PackageDescription: 20-Pin Plastic Small Outline, Body 6.5 x 4.4 mm, Pitch 0.65 mm; Supplier 1: Digi-Key; Supplier Part Number 1: 296-2268-5-ND; Supplier 2: Mouser; Supplier Part Number 2: 595-TPS60121PWP; Eco-Plan: Green (RoHS & no Sb/Br); Topology: Boost; Mounting Technology: Surface Mount; Code_JEDEC: MO-153; ComponentLink1Description: Manufacturer URL; ComponentLink1URL: http://www.ti.com/; ComponentLink2Description: Datasheet; ComponentLink2URL: http://www.ti.com/general/docs/lit/getliterature.tsp?genericPartNumber=TPS60121&fileType=pdf; ComponentLink3Description: Package Specification; ComponentLink3URL: http://www.ti.com/litv/pdf/mhts001g
footprint TI-PWP20-2680X1950TP_N (SOP, 20-Leads, Body 6.4x4.4mm, Pitch 0.65mm, Thermal Pad 1.95x2.675mm, IPC Medium Density)
footprint TI-PWP20-2680X1950TP_L (SOP, 20-Leads, Body 6.4x4.4mm, Pitch 0.65mm, Thermal Pad 1.95x2.675mm, IPC High Density)
footprint TI-PWP20-2680X1950TP_M (SOP, 20-Leads, Body 6.4x4.4mm, Pitch 0.65mm, Thermal Pad 1.95x2.675mm, IPC Low Density)
part A pins: 3 ENABLE (in) "ENABLE input. Connect ENABLE to IN for normal operation. When ENABLE is a logic low, the device turns off and the supply current decreases to 0.05 uA. The output is disconnected from the input when the device is placed in (See Datasheet)", 4 FB (in) "Feedback input. Connect FB to OUT as close to the load as possible to achieve best regulation. Resistive divider is on the chip to match the internal reference voltage of 1.21 V.", 5 OUT (power) "Regulated power output. Connect both OUT terminals through a short trace and bypass OUT to GND with the output filter capacitor CO.", 6 C1+ "Positive terminal of the flying capacitor C1", 7 IN (power) "Supply input. Connect to an input supply in the 1.8-V to 3.6-V range. Bypass IN to PGND with a (CO/2) uF capacitor.Connect both INs through a short trace.", 8 C1- "Negative terminal of the flying capacitor C1", 13 C2- "Negative terminal of the flying capacitor C2", 14 IN (power) "Supply input. Connect to an input supply in the 1.8-V to 3.6-V range. Bypass IN to PGND with a (CO/2) uF capacitor.Connect both INs through a short trace.", 15 C2+ "Positive terminal of the flying capacitor C2", 16 OUT (power) "Regulated power output. Connect both OUT terminals through a short trace and bypass OUT to GND with the output filter capacitor CO.", 17 PG (hiz) "Low battery detector output or power good output. Open drain output of the low battery or power-good comparator.It can sink 1 mA. A 100-kohm to 1-Mohm pullup is recommended. Leave terminal unconnected if not used.", 18 NC "This terminal is not connected."
part B pins: 1 GND (power) "Ground. Analog ground for internal reference and control circuitry. Connect to PGND through a short trace.", 2 GND (power) "Ground. Analog ground for internal reference and control circuitry. Connect to PGND through a short trace.", 9 PGND (power) "Power ground. Charge-pump current flows through this pin. Connect all PGND pins together.", 10 PGND (power) "Power ground. Charge-pump current flows through this pin. Connect all PGND pins together.", 11 PGND (power) "Power ground. Charge-pump current flows through this pin. Connect all PGND pins together.", 12 PGND (power) "Power ground. Charge-pump current flows through this pin. Connect all PGND pins together.", 19 GND (power) "Ground. Analog ground for internal reference and control circuitry. Connect to PGND through a short trace.", 20 GND (power) "Ground. Analog ground for internal reference and control circuitry. Connect to PGND through a short trace.", 21 EP "The Thermal Pad."

## TPS60121PWPG4
designator U?
3.3 V, Boost Charge Pump, 200 mA, 1.8 to 3.6 V Input with 2-Cell Alkaline / Nixx Input, -40 to 85 degC, 20-pin SOP (PWP20), Green (RoHS & no Sb/Br); Manufacturer: Texas Instruments; PartNumber: TPS60121PWPG4; 2-Cell Alkaline/Nixx Input: TRUE; Efficiency(Typ)(%): 85; Iout(Max)(A): 0.2; Iq(Typ)(mA): 0.055; Preset Vout(V): 3.3; Switching Frequency(Max)(kHz): 450; Vin(Max)(V): 3.6; Vin(Min)(V): 1.8; Vout(Max)(V): 3.43; Vout(Min)(V): 3.17; DatasheetVersion: SLVS257B; PackageVersion: 4073225-4/I; PackageReference: PWP20-2680X1950TP; PackageDescription: 20-Pin Plastic Small Outline, Body 6.5 x 4.4 mm, Pitch 0.65 mm; Supplier 1: Digi-Key; Supplier Part Number 1: TPS60121PWPG4-ND; Supplier 2: Mouser; Supplier Part Number 2: 595-TPS60121PWPG4; Eco-Plan: Green (RoHS & no Sb/Br); Topology: Boost; Mounting Technology: Surface Mount; Code_JEDEC: MO-153; ComponentLink1Description: Manufacturer URL; ComponentLink1URL: http://www.ti.com/; ComponentLink2Description: Datasheet; ComponentLink2URL: http://www.ti.com/general/docs/lit/getliterature.tsp?genericPartNumber=TPS60121&fileType=pdf; ComponentLink3Description: Package Specification; ComponentLink3URL: http://www.ti.com/litv/pdf/mhts001g
footprint TI-PWP20-2680X1950TP_N (SOP, 20-Leads, Body 6.4x4.4mm, Pitch 0.65mm, Thermal Pad 1.95x2.675mm, IPC Medium Density)
footprint TI-PWP20-2680X1950TP_L (SOP, 20-Leads, Body 6.4x4.4mm, Pitch 0.65mm, Thermal Pad 1.95x2.675mm, IPC High Density)
footprint TI-PWP20-2680X1950TP_M (SOP, 20-Leads, Body 6.4x4.4mm, Pitch 0.65mm, Thermal Pad 1.95x2.675mm, IPC Low Density)
part A pins: 3 ENABLE (in) "ENABLE input. Connect ENABLE to IN for normal operation. When ENABLE is a logic low, the device turns off and the supply current decreases to 0.05 uA. The output is disconnected from the input when the device is placed in (See Datasheet)", 4 FB (in) "Feedback input. Connect FB to OUT as close to the load as possible to achieve best regulation. Resistive divider is on the chip to match the internal reference voltage of 1.21 V.", 5 OUT (power) "Regulated power output. Connect both OUT terminals through a short trace and bypass OUT to GND with the output filter capacitor CO.", 6 C1+ "Positive terminal of the flying capacitor C1", 7 IN (power) "Supply input. Connect to an input supply in the 1.8-V to 3.6-V range. Bypass IN to PGND with a (CO/2) uF capacitor.Connect both INs through a short trace.", 8 C1- "Negative terminal of the flying capacitor C1", 13 C2- "Negative terminal of the flying capacitor C2", 14 IN (power) "Supply input. Connect to an input supply in the 1.8-V to 3.6-V range. Bypass IN to PGND with a (CO/2) uF capacitor.Connect both INs through a short trace.", 15 C2+ "Positive terminal of the flying capacitor C2", 16 OUT (power) "Regulated power output. Connect both OUT terminals through a short trace and bypass OUT to GND with the output filter capacitor CO.", 17 PG (hiz) "Low battery detector output or power good output. Open drain output of the low battery or power-good comparator.It can sink 1 mA. A 100-kohm to 1-Mohm pullup is recommended. Leave terminal unconnected if not used.", 18 NC "This terminal is not connected."
part B pins: 1 GND (power) "Ground. Analog ground for internal reference and control circuitry. Connect to PGND through a short trace.", 2 GND (power) "Ground. Analog ground for internal reference and control circuitry. Connect to PGND through a short trace.", 9 PGND (power) "Power ground. Charge-pump current flows through this pin. Connect all PGND pins together.", 10 PGND (power) "Power ground. Charge-pump current flows through this pin. Connect all PGND pins together.", 11 PGND (power) "Power ground. Charge-pump current flows through this pin. Connect all PGND pins together.", 12 PGND (power) "Power ground. Charge-pump current flows through this pin. Connect all PGND pins together.", 19 GND (power) "Ground. Analog ground for internal reference and control circuitry. Connect to PGND through a short trace.", 20 GND (power) "Ground. Analog ground for internal reference and control circuitry. Connect to PGND through a short trace.", 21 EP "The Thermal Pad."

## TPS60121PWPR
designator U?
3.3 V, Boost Charge Pump, 200 mA, 1.8 to 3.6 V Input with 2-Cell Alkaline / Nixx Input, -40 to 85 degC, 20-pin SOP (PWP20), Green (RoHS & no Sb/Br); Manufacturer: Texas Instruments; PartNumber: TPS60121PWPR; 2-Cell Alkaline/Nixx Input: TRUE; Efficiency(Typ)(%): 85; Iout(Max)(A): 0.2; Iq(Typ)(mA): 0.055; Preset Vout(V): 3.3; Switching Frequency(Max)(kHz): 450; Vin(Max)(V): 3.6; Vin(Min)(V): 1.8; Vout(Max)(V): 3.43; Vout(Min)(V): 3.17; DatasheetVersion: SLVS257B; PackageVersion: 4073225-4/I; PackageReference: PWP20-2680X1950TP; PackageDescription: 20-Pin Plastic Small Outline, Body 6.5 x 4.4 mm, Pitch 0.65 mm; Supplier 1: Digi-Key; Supplier Part Number 1: TPS60121PWPR-ND; Supplier 2: Mouser; Supplier Part Number 2: 595-TPS60121PWPR; Eco-Plan: Green (RoHS & no Sb/Br); Topology: Boost; Mounting Technology: Surface Mount; Code_JEDEC: MO-153; ComponentLink1Description: Manufacturer URL; ComponentLink1URL: http://www.ti.com/; ComponentLink2Description: Datasheet; ComponentLink2URL: http://www.ti.com/general/docs/lit/getliterature.tsp?genericPartNumber=TPS60121&fileType=pdf; ComponentLink3Description: Package Specification; ComponentLink3URL: http://www.ti.com/litv/pdf/mhts001g
footprint TI-PWP20-2680X1950TP_N (SOP, 20-Leads, Body 6.4x4.4mm, Pitch 0.65mm, Thermal Pad 1.95x2.675mm, IPC Medium Density)
footprint TI-PWP20-2680X1950TP_L (SOP, 20-Leads, Body 6.4x4.4mm, Pitch 0.65mm, Thermal Pad 1.95x2.675mm, IPC High Density)
footprint TI-PWP20-2680X1950TP_M (SOP, 20-Leads, Body 6.4x4.4mm, Pitch 0.65mm, Thermal Pad 1.95x2.675mm, IPC Low Density)
part A pins: 3 ENABLE (in) "ENABLE input. Connect ENABLE to IN for normal operation. When ENABLE is a logic low, the device turns off and the supply current decreases to 0.05 uA. The output is disconnected from the input when the device is placed in (See Datasheet)", 4 FB (in) "Feedback input. Connect FB to OUT as close to the load as possible to achieve best regulation. Resistive divider is on the chip to match the internal reference voltage of 1.21 V.", 5 OUT (power) "Regulated power output. Connect both OUT terminals through a short trace and bypass OUT to GND with the output filter capacitor CO.", 6 C1+ "Positive terminal of the flying capacitor C1", 7 IN (power) "Supply input. Connect to an input supply in the 1.8-V to 3.6-V range. Bypass IN to PGND with a (CO/2) uF capacitor.Connect both INs through a short trace.", 8 C1- "Negative terminal of the flying capacitor C1", 13 C2- "Negative terminal of the flying capacitor C2", 14 IN (power) "Supply input. Connect to an input supply in the 1.8-V to 3.6-V range. Bypass IN to PGND with a (CO/2) uF capacitor.Connect both INs through a short trace.", 15 C2+ "Positive terminal of the flying capacitor C2", 16 OUT (power) "Regulated power output. Connect both OUT terminals through a short trace and bypass OUT to GND with the output filter capacitor CO.", 17 PG (hiz) "Low battery detector output or power good output. Open drain output of the low battery or power-good comparator.It can sink 1 mA. A 100-kohm to 1-Mohm pullup is recommended. Leave terminal unconnected if not used.", 18 NC "This terminal is not connected."
part B pins: 1 GND (power) "Ground. Analog ground for internal reference and control circuitry. Connect to PGND through a short trace.", 2 GND (power) "Ground. Analog ground for internal reference and control circuitry. Connect to PGND through a short trace.", 9 PGND (power) "Power ground. Charge-pump current flows through this pin. Connect all PGND pins together.", 10 PGND (power) "Power ground. Charge-pump current flows through this pin. Connect all PGND pins together.", 11 PGND (power) "Power ground. Charge-pump current flows through this pin. Connect all PGND pins together.", 12 PGND (power) "Power ground. Charge-pump current flows through this pin. Connect all PGND pins together.", 19 GND (power) "Ground. Analog ground for internal reference and control circuitry. Connect to PGND through a short trace.", 20 GND (power) "Ground. Analog ground for internal reference and control circuitry. Connect to PGND through a short trace.", 21 EP "The Thermal Pad."

## TPS60121PWPRG4
designator U?
3.3 V, Boost Charge Pump, 200 mA, 1.8 to 3.6 V Input with 2-Cell Alkaline / Nixx Input, -40 to 85 degC, 20-pin SOP (PWP20), Green (RoHS & no Sb/Br); Manufacturer: Texas Instruments; PartNumber: TPS60121PWPRG4; 2-Cell Alkaline/Nixx Input: TRUE; Efficiency(Typ)(%): 85; Iout(Max)(A): 0.2; Iq(Typ)(mA): 0.055; Preset Vout(V): 3.3; Switching Frequency(Max)(kHz): 450; Vin(Max)(V): 3.6; Vin(Min)(V): 1.8; Vout(Max)(V): 3.43; Vout(Min)(V): 3.17; DatasheetVersion: SLVS257B; PackageVersion: 4073225-4/I; PackageReference: PWP20-2680X1950TP; PackageDescription: 20-Pin Plastic Small Outline, Body 6.5 x 4.4 mm, Pitch 0.65 mm; Supplier 1: Digi-Key; Supplier Part Number 1: TPS60121PWPRG4-ND; Supplier 2: Mouser; Supplier Part Number 2: 595-TPS60121PWPRG4; Eco-Plan: Green (RoHS & no Sb/Br); Topology: Boost; Mounting Technology: Surface Mount; Code_JEDEC: MO-153; ComponentLink1Description: Manufacturer URL; ComponentLink1URL: http://www.ti.com/; ComponentLink2Description: Datasheet; ComponentLink2URL: http://www.ti.com/general/docs/lit/getliterature.tsp?genericPartNumber=TPS60121&fileType=pdf; ComponentLink3Description: Package Specification; ComponentLink3URL: http://www.ti.com/litv/pdf/mhts001g
footprint TI-PWP20-2680X1950TP_N (SOP, 20-Leads, Body 6.4x4.4mm, Pitch 0.65mm, Thermal Pad 1.95x2.675mm, IPC Medium Density)
footprint TI-PWP20-2680X1950TP_L (SOP, 20-Leads, Body 6.4x4.4mm, Pitch 0.65mm, Thermal Pad 1.95x2.675mm, IPC High Density)
footprint TI-PWP20-2680X1950TP_M (SOP, 20-Leads, Body 6.4x4.4mm, Pitch 0.65mm, Thermal Pad 1.95x2.675mm, IPC Low Density)
part A pins: 3 ENABLE (in) "ENABLE input. Connect ENABLE to IN for normal operation. When ENABLE is a logic low, the device turns off and the supply current decreases to 0.05 uA. The output is disconnected from the input when the device is placed in (See Datasheet)", 4 FB (in) "Feedback input. Connect FB to OUT as close to the load as possible to achieve best regulation. Resistive divider is on the chip to match the internal reference voltage of 1.21 V.", 5 OUT (power) "Regulated power output. Connect both OUT terminals through a short trace and bypass OUT to GND with the output filter capacitor CO.", 6 C1+ "Positive terminal of the flying capacitor C1", 7 IN (power) "Supply input. Connect to an input supply in the 1.8-V to 3.6-V range. Bypass IN to PGND with a (CO/2) uF capacitor.Connect both INs through a short trace.", 8 C1- "Negative terminal of the flying capacitor C1", 13 C2- "Negative terminal of the flying capacitor C2", 14 IN (power) "Supply input. Connect to an input supply in the 1.8-V to 3.6-V range. Bypass IN to PGND with a (CO/2) uF capacitor.Connect both INs through a short trace.", 15 C2+ "Positive terminal of the flying capacitor C2", 16 OUT (power) "Regulated power output. Connect both OUT terminals through a short trace and bypass OUT to GND with the output filter capacitor CO.", 17 PG (hiz) "Low battery detector output or power good output. Open drain output of the low battery or power-good comparator.It can sink 1 mA. A 100-kohm to 1-Mohm pullup is recommended. Leave terminal unconnected if not used.", 18 NC "This terminal is not connected."
part B pins: 1 GND (power) "Ground. Analog ground for internal reference and control circuitry. Connect to PGND through a short trace.", 2 GND (power) "Ground. Analog ground for internal reference and control circuitry. Connect to PGND through a short trace.", 9 PGND (power) "Power ground. Charge-pump current flows through this pin. Connect all PGND pins together.", 10 PGND (power) "Power ground. Charge-pump current flows through this pin. Connect all PGND pins together.", 11 PGND (power) "Power ground. Charge-pump current flows through this pin. Connect all PGND pins together.", 12 PGND (power) "Power ground. Charge-pump current flows through this pin. Connect all PGND pins together.", 19 GND (power) "Ground. Analog ground for internal reference and control circuitry. Connect to PGND through a short trace.", 20 GND (power) "Ground. Analog ground for internal reference and control circuitry. Connect to PGND through a short trace.", 21 EP "The Thermal Pad."